# Altium schematic symbol library Exar.SchLib: 1 symbol
Pins are listed as number, name and electrical type; pins without a type are passive.

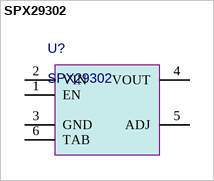
[diagram p0: symbol SPX29302]

## SPX29302
designator U?
Value: SPX29302
pins: 1 EN, 2 VIN, 3 GND, 4 VOUT, 5 ADJ, 6 TAB